# Altium schematic symbol library Logic Counter.SchLib: 17 symbols
Pins are listed as number, name and electrical type; pins without a type are passive.

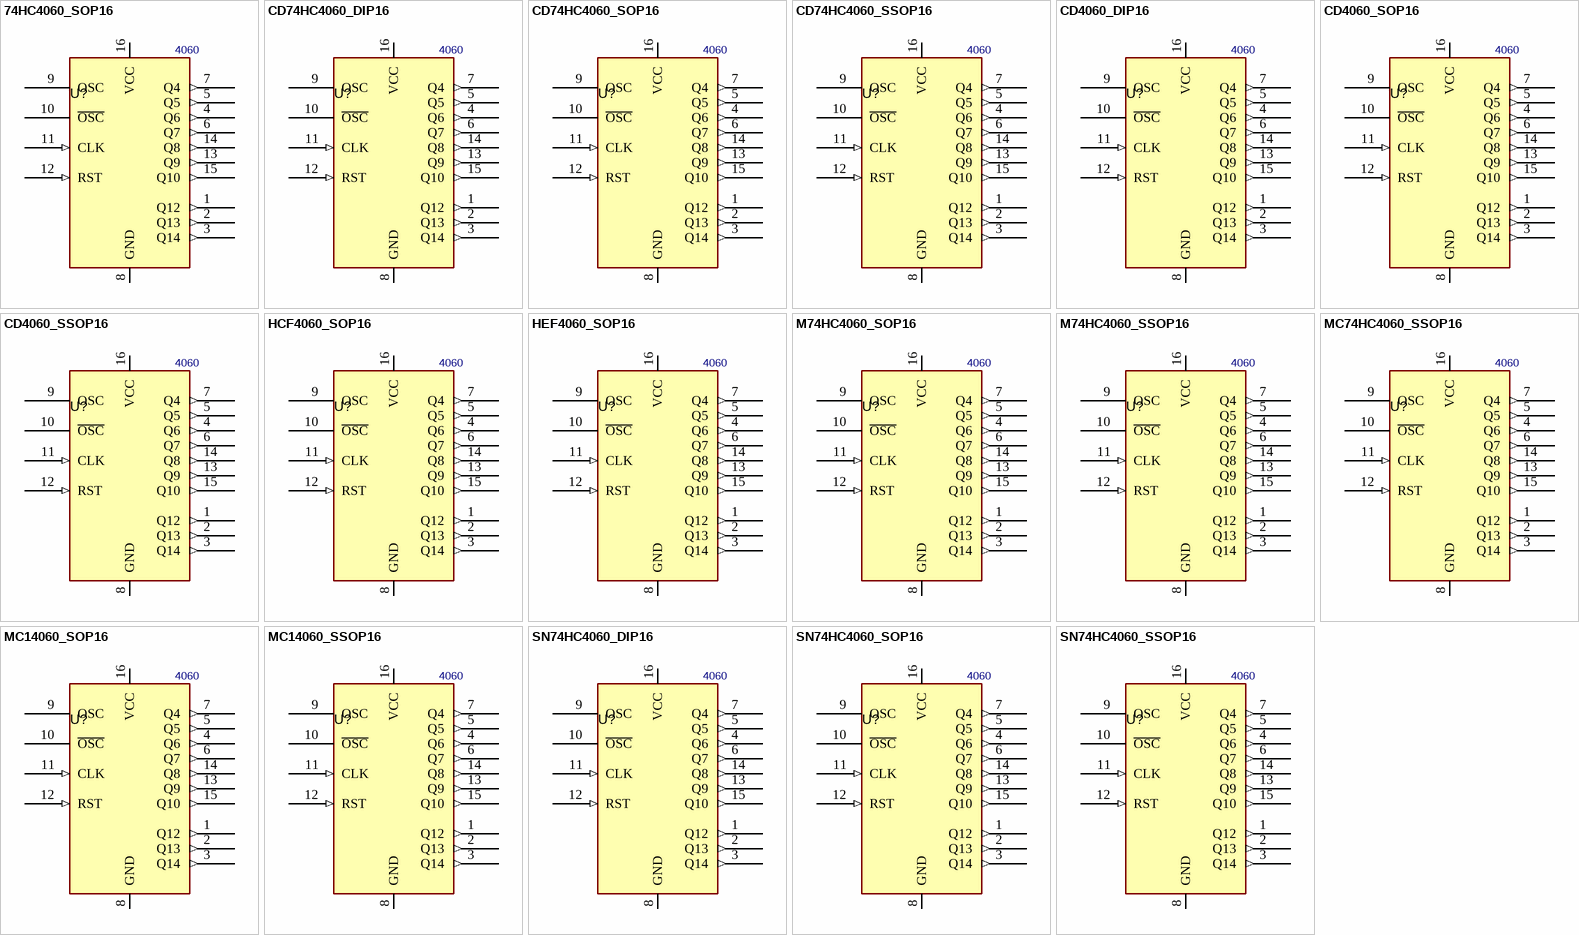
[diagram p0: symbols 74HC4060_SOP16 to SN74HC4060_SSOP16]

## 74HC4060_SOP16
designator U?, comment 4060
Counter, 14-Bit Binary, 2~6V, 5mA; MANF: Nexperia; MANF_P#: 74HC4060D, 74HC4060DB; PARAM2: 2~6V, -40~125oC; PRICE: 0.5$; VALUE: 4060
footprint SO_16 (SOP, SOIC, 3.9mm width, 1.27mm pitch,)
pins: 1 Q12 (out), 2 Q13 (out), 3 Q14 (out), 4 Q6 (out), 5 Q5 (out), 6 Q7 (out), 7 Q4 (out), 8 GND (power), 9 OSC, 10 ~{OSC}, 11 CLK (in), 12 RST (in), 13 Q9 (out), 14 Q8 (out), 15 Q10 (out), 16 VCC (power)

## CD74HC4060_DIP16
designator U?, comment 4060
Counter, 14-Bit Binary, 2~6V, 5mA; MANF: TI; MANF_P#: CD74HC4060E; PARAM2: 2~6V, -55~125oC; PARAM: 5mA; PRICE: 0.5$; VALUE: 4060
footprint DIP_16 (DIP, pitch 2.54mm, 300mil Width)
pins: 1 Q12 (out), 2 Q13 (out), 3 Q14 (out), 4 Q6 (out), 5 Q5 (out), 6 Q7 (out), 7 Q4 (out), 8 GND (power), 9 OSC, 10 ~{OSC}, 11 CLK (in), 12 RST (in), 13 Q9 (out), 14 Q8 (out), 15 Q10 (out), 16 VCC (power)

## CD74HC4060_SOP16
designator U?, comment 4060
Counter, 14-Bit Binary, 2~6V; MANF: TI; MANF_P#: CD74HC4060M; PARAM2: 2~6V, -55~125oC; PRICE: 0.5$; VALUE: 4060
footprint SO_16 (SOP, SOIC, 3.9mm width, 1.27mm pitch,)
pins: 1 Q12 (out), 2 Q13 (out), 3 Q14 (out), 4 Q6 (out), 5 Q5 (out), 6 Q7 (out), 7 Q4 (out), 8 GND (power), 9 OSC, 10 ~{OSC}, 11 CLK (in), 12 RST (in), 13 Q9 (out), 14 Q8 (out), 15 Q10 (out), 16 VCC (power)

## CD74HC4060_SSOP16
designator U?, comment 4060
Counter, 14-Bit Binary, 2~6V, 5mA; MANF: TI; MANF_P#: CD74HC4060PW; PARAM2: 2~6V, -55~125oC; PRICE: 0.5$; VALUE: 4060
footprint SOG65_16 (PW TSSOP (TI), MO-153-AB (JEDEC), 16Lead, pitch: 0.65mm, 5x4.4x1.2mm)
pins: 1 Q12 (out), 2 Q13 (out), 3 Q14 (out), 4 Q6 (out), 5 Q5 (out), 6 Q7 (out), 7 Q4 (out), 8 GND (power), 9 OSC, 10 ~{OSC}, 11 CLK (in), 12 RST (in), 13 Q9 (out), 14 Q8 (out), 15 Q10 (out), 16 VCC (power)

## CD4060_DIP16
designator U?, comment 4060
Counter, 14-Bit Binary, 3~18v, 10mA; MANF: TI; MANF_P#: CD4060BE; PARAM2: 3~18v, -55~125oC; PARAM: 10mA; PRICE: 0.5$; VALUE: 4060
footprint DIP_16 (DIP, pitch 2.54mm, 300mil Width)
pins: 1 Q12 (out), 2 Q13 (out), 3 Q14 (out), 4 Q6 (out), 5 Q5 (out), 6 Q7 (out), 7 Q4 (out), 8 GND (power), 9 OSC, 10 ~{OSC}, 11 CLK (in), 12 RST (in), 13 Q9 (out), 14 Q8 (out), 15 Q10 (out), 16 VCC (power)

## CD4060_SOP16
designator U?, comment 4060
Counter, 14-Bit Binary, 3~18v, 10mA; MANF: TI; MANF_P#: CD4060BM; PARAM2: 3~18v, -55~125oC; PARAM: 10mA; PRICE: 0.5$; VALUE: 4060
footprint SO_16 (SOP, SOIC, 3.9mm width, 1.27mm pitch,)
pins: 1 Q12 (out), 2 Q13 (out), 3 Q14 (out), 4 Q6 (out), 5 Q5 (out), 6 Q7 (out), 7 Q4 (out), 8 GND (power), 9 OSC, 10 ~{OSC}, 11 CLK (in), 12 RST (in), 13 Q9 (out), 14 Q8 (out), 15 Q10 (out), 16 VCC (power)

## CD4060_SSOP16
designator U?, comment 4060
Counter, 14-Bit Binary, 3~18v, 10mA; MANF: TI; MANF_P#: CD4060BPW; PARAM2: 3~18v, -55~125oC; PARAM: 10mA; PRICE: 0.5$; VALUE: 4060
footprint SOG65_16 (PW TSSOP (TI), MO-153-AB (JEDEC), 16Lead, pitch: 0.65mm, 5x4.4x1.2mm)
pins: 1 Q12 (out), 2 Q13 (out), 3 Q14 (out), 4 Q6 (out), 5 Q5 (out), 6 Q7 (out), 7 Q4 (out), 8 GND (power), 9 OSC, 10 ~{OSC}, 11 CLK (in), 12 RST (in), 13 Q9 (out), 14 Q8 (out), 15 Q10 (out), 16 VCC (power)

## HCF4060_SOP16
designator U?, comment 4060
Counter, 14-Bit Binary, 3~18v, 10mA; MANF: ST; MANF_P#: HCF4060YM013; PARAM2: 3~18v, -40~125oC; PARAM: 10mA, 370ns; PRICE: 0.5$; VALUE: 4060
footprint SO_16 (SOP, SOIC, 3.9mm width, 1.27mm pitch,)
pins: 1 Q12 (out), 2 Q13 (out), 3 Q14 (out), 4 Q6 (out), 5 Q5 (out), 6 Q7 (out), 7 Q4 (out), 8 GND (power), 9 OSC, 10 ~{OSC}, 11 CLK (in), 12 RST (in), 13 Q9 (out), 14 Q8 (out), 15 Q10 (out), 16 VCC (power)

## HEF4060_SOP16
designator U?, comment 4060
Counter, 14-Bit Binary, 3~18v, 10mA; MANF: Nexperia; MANF_P#: HEF4060BT; PARAM2: 3~18v, -40~125oC; PARAM: 10mA, 370ns; PRICE: 0.5$; VALUE: 4060
footprint SO_16 (SOP, SOIC, 3.9mm width, 1.27mm pitch,)
pins: 1 Q12 (out), 2 Q13 (out), 3 Q14 (out), 4 Q6 (out), 5 Q5 (out), 6 Q7 (out), 7 Q4 (out), 8 GND (power), 9 OSC, 10 ~{OSC}, 11 CLK (in), 12 RST (in), 13 Q9 (out), 14 Q8 (out), 15 Q10 (out), 16 VCC (power)

## M74HC4060_SOP16
designator U?, comment 4060
Counter, 14-Bit Binary, 2~6V; MANF: ST; MANF_P#: M74HC4060YRM13; PARAM2: 2~6V, -55~125oC; PARAM: 170ns; PRICE: 0.5$; VALUE: 4060
footprint SO_16 (SOP, SOIC, 3.9mm width, 1.27mm pitch,)
pins: 1 Q12 (out), 2 Q13 (out), 3 Q14 (out), 4 Q6 (out), 5 Q5 (out), 6 Q7 (out), 7 Q4 (out), 8 GND (power), 9 OSC, 10 ~{OSC}, 11 CLK (in), 12 RST (in), 13 Q9 (out), 14 Q8 (out), 15 Q10 (out), 16 VCC (power)

## M74HC4060_SSOP16
designator U?, comment 4060
Counter, 14-Bit Binary, 2~6V; MANF: ST; MANF_P#: M74HC4060YT; PARAM2: 2~6V, -55~125oC; PARAM: 170ns; PRICE: 0.5$; VALUE: 4060
footprint SOG65_16 (PW TSSOP (TI), MO-153-AB (JEDEC), 16Lead, pitch: 0.65mm, 5x4.4x1.2mm)
pins: 1 Q12 (out), 2 Q13 (out), 3 Q14 (out), 4 Q6 (out), 5 Q5 (out), 6 Q7 (out), 7 Q4 (out), 8 GND (power), 9 OSC, 10 ~{OSC}, 11 CLK (in), 12 RST (in), 13 Q9 (out), 14 Q8 (out), 15 Q10 (out), 16 VCC (power)

## MC74HC4060_SSOP16
designator U?, comment 4060
Counter, 14-Bit Binary, 2~6V; MANF: ON; MANF_P#: MC74HC4060AD; PARAM2: 2~6V, -55~125oC; PRICE: 0.5$; VALUE: 4060
footprint SOG65_16 (PW TSSOP (TI), MO-153-AB (JEDEC), 16Lead, pitch: 0.65mm, 5x4.4x1.2mm)
pins: 1 Q12 (out), 2 Q13 (out), 3 Q14 (out), 4 Q6 (out), 5 Q5 (out), 6 Q7 (out), 7 Q4 (out), 8 GND (power), 9 OSC, 10 ~{OSC}, 11 CLK (in), 12 RST (in), 13 Q9 (out), 14 Q8 (out), 15 Q10 (out), 16 VCC (power)

## MC14060_SOP16
designator U?, comment 4060
Counter, 14-Bit Binary, 3~18v, 10mA; MANF: ON; MANF_P#: MC14060BD; PARAM2: 3~18v, -55~125oC; PARAM: 10mA; PRICE: 0.5$; VALUE: 4060
footprint SO_16 (SOP, SOIC, 3.9mm width, 1.27mm pitch,)
pins: 1 Q12 (out), 2 Q13 (out), 3 Q14 (out), 4 Q6 (out), 5 Q5 (out), 6 Q7 (out), 7 Q4 (out), 8 GND (power), 9 OSC, 10 ~{OSC}, 11 CLK (in), 12 RST (in), 13 Q9 (out), 14 Q8 (out), 15 Q10 (out), 16 VCC (power)

## MC14060_SSOP16
designator U?, comment 4060
Counter, 14-Bit Binary, 3~18v, 10mA; MANF: ON; MANF_P#: MC14060BDTR2G; PARAM2: 3~18v, -55~125oC; PARAM: 10mA; PRICE: 0.5$; VALUE: 4060
footprint SOG65_16 (PW TSSOP (TI), MO-153-AB (JEDEC), 16Lead, pitch: 0.65mm, 5x4.4x1.2mm)
pins: 1 Q12 (out), 2 Q13 (out), 3 Q14 (out), 4 Q6 (out), 5 Q5 (out), 6 Q7 (out), 7 Q4 (out), 8 GND (power), 9 OSC, 10 ~{OSC}, 11 CLK (in), 12 RST (in), 13 Q9 (out), 14 Q8 (out), 15 Q10 (out), 16 VCC (power)

## SN74HC4060_DIP16
designator U?, comment 4060
Counter, 14-Bit Binary, 2~6V, 5mA; MANF: TI; MANF_P#: SN74HC4060N; PARAM2: 2~6V, -55~85oC; PARAM: 5mA; PRICE: 0.5$; VALUE: 4060
footprint DIP_16 (DIP, pitch 2.54mm, 300mil Width)
pins: 1 Q12 (out), 2 Q13 (out), 3 Q14 (out), 4 Q6 (out), 5 Q5 (out), 6 Q7 (out), 7 Q4 (out), 8 GND (power), 9 OSC, 10 ~{OSC}, 11 CLK (in), 12 RST (in), 13 Q9 (out), 14 Q8 (out), 15 Q10 (out), 16 VCC (power)

## SN74HC4060_SOP16
designator U?, comment 4060
Counter, 14-Bit Binary, 2~6V, 5mA; MANF: TI; MANF_P#: SN74HC4060D; PARAM2: 2~6V, -55~85oC; PARAM: 5mA; PRICE: 0.5$; VALUE: 4060
footprint SO_16 (SOP, SOIC, 3.9mm width, 1.27mm pitch,)
pins: 1 Q12 (out), 2 Q13 (out), 3 Q14 (out), 4 Q6 (out), 5 Q5 (out), 6 Q7 (out), 7 Q4 (out), 8 GND (power), 9 OSC, 10 ~{OSC}, 11 CLK (in), 12 RST (in), 13 Q9 (out), 14 Q8 (out), 15 Q10 (out), 16 VCC (power)

## SN74HC4060_SSOP16
designator U?, comment 4060
Counter, 14-Bit Binary, 2~6V; MANF: TI; MANF_P#: SN74HC4060PWRE4; PARAM2: 2~6V, -55~85oC; PRICE: 0.5$; VALUE: 4060
footprint SOG65_16 (PW TSSOP (TI), MO-153-AB (JEDEC), 16Lead, pitch: 0.65mm, 5x4.4x1.2mm)
pins: 1 Q12 (out), 2 Q13 (out), 3 Q14 (out), 4 Q6 (out), 5 Q5 (out), 6 Q7 (out), 7 Q4 (out), 8 GND (power), 9 OSC, 10 ~{OSC}, 11 CLK (in), 12 RST (in), 13 Q9 (out), 14 Q8 (out), 15 Q10 (out), 16 VCC (power)